# Altium footprint library AMASS_XT90PW-M.PcbLib: 1 footprints
Each footprint in its own frame and in the unit in brackets; x right, y up, seen from the top. Pads: shape width x height; smd on the part's side, far side on the other; paste and mask are expansions set on the pad; w line width, h text height; cw(c..) or ccw(c..) is an arc to the next point about the centre after c.
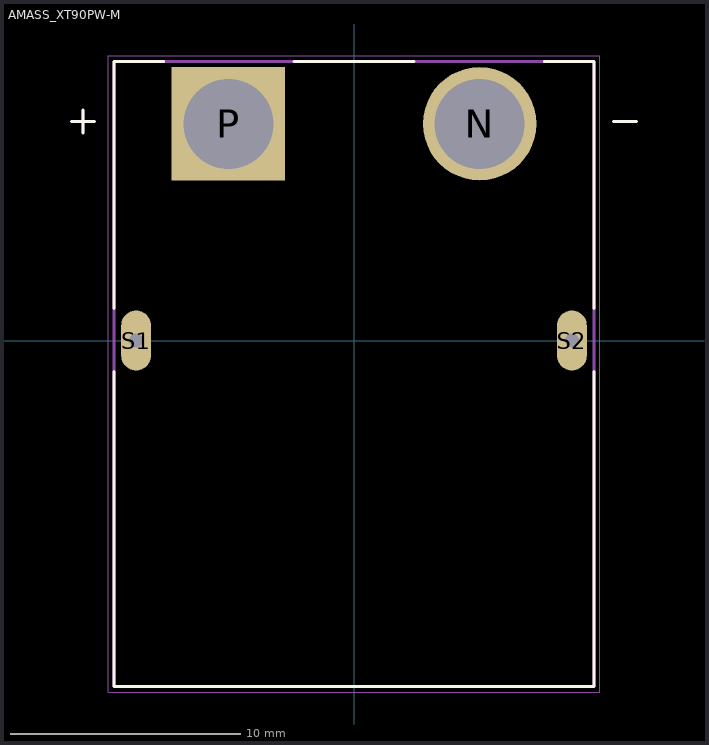
[diagram p0: the footprint, top view; thin cyan lines are the x and y axes]

## AMASS_XT90PW-M [mm]
pads (4):
  round 4.916 hole 3.9: N(5.45,9.4)
  rect 4.916x4.916 hole 3.9: P(-5.45,9.4)
  oval 1.3x2.6 hole 0.6 square: S1(-9.45,0) S2(9.45,0)
Top Overlay:
  lines w0.127: -12.25,9.5 -11.25,9.5 ; -11.75,9 -11.75,10 ; -10.4,-1.35 -10.4,-15 10.4,-15 10.4,-1.35 ; -10.4,1.4 -10.4,12.1 -8.25,12.1 ; -2.6,12.1 2.6,12.1 ; 8.25,12.1 10.4,12.1 10.4,1.4 ; 11.25,9.5 12.25,9.5
Mechanical 13:
  lines w0.127: -12.25,9.5 -11.25,9.5 ; -11.75,9 -11.75,10 ; 11.25,9.5 12.25,9.5 ; -10.4,-15 10.4,-15 10.4,12.1 -10.4,12.1 -10.4,-15
Mechanical 15:
  lines w0.05: -10.65,-15.25 10.65,-15.25 10.65,12.35 -10.65,12.35 -10.65,-15.25
3D body "step_temp.STEP": height 10.3, standoff -3.2, extent -10.6,-15 10.6,12.1